# Altium integrated library Vishay Sprague Tantalum Triple-Lead Capacitor.IntLib: 14 symbols
Pins are listed as number, name and electrical type; pins without a type are passive.

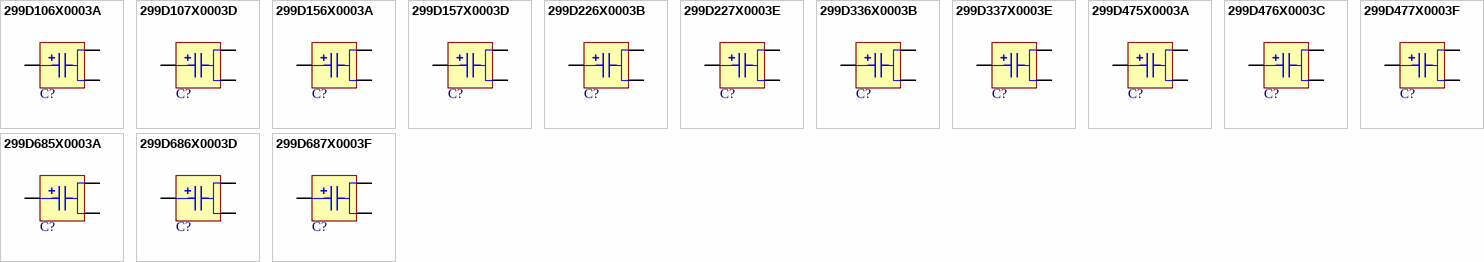
[diagram p0: symbols 299D106X0003A to 299D687X0003F]

## 299D106X0003A
designator C?
Resin-Coated, Tripole Triple-Lead, Solid Electrolyte Tantalex Capacitor: 10uF, 20% Tolerance, 3 WVDC @ +85°C, Surge = 3.6V; Note: See Data Sheet for full range of components; Published: 19-Mar-2004; DatasheetDocument: 28-Mar-2002; PackageReference: 299D-A; Publisher: Altium Limited; ComponentLink1Description: Manufacturer Link; ComponentLink1URL: http://www.vishay.com/; ComponentLink2Description: Datasheet; ComponentLink2URL: http://www.vishay.com/docs/40044/299d.pdf
footprint 299D-A (Capacitor, Tantalum Bead, Triple Lead; Body 7.1 x 4.82 x 9.14 mm (WxTxH max); Pin Spacing 2.54 mm (typ))
pins: 1, 2, 3
1 alternate drawing of the same symbol

## 299D107X0003D
designator C?
Resin-Coated, Tripole Triple-Lead, Solid Electrolyte Tantalex Capacitor: 100uF, 20% Tolerance, 3 WVDC @ +85°C, Surge = 3.6V; Note: See Data Sheet for full range of components; Published: 19-Mar-2004; DatasheetDocument: 28-Mar-2002; PackageReference: 299D-D; Publisher: Altium Limited; ComponentLink1Description: Manufacturer Link; ComponentLink1URL: http://www.vishay.com/; ComponentLink2Description: Datasheet; ComponentLink2URL: http://www.vishay.com/docs/40044/299d.pdf
footprint 299D-D (Capacitor, Tantalum Bead, Triple Lead; Body 7.1 x 6.85 x 11.17 mm (WxTxH max); Pin Spacing 2.54 mm (typ))
pins: 1, 2, 3
1 alternate drawing of the same symbol

## 299D156X0003A
designator C?
Resin-Coated, Tripole Triple-Lead, Solid Electrolyte Tantalex Capacitor: 15uF, 20% Tolerance, 3 WVDC @ +85°C, Surge = 3.6V; Note: See Data Sheet for full range of components; Published: 19-Mar-2004; DatasheetDocument: 28-Mar-2002; PackageReference: 299D-A; Publisher: Altium Limited; ComponentLink1Description: Manufacturer Link; ComponentLink1URL: http://www.vishay.com/; ComponentLink2Description: Datasheet; ComponentLink2URL: http://www.vishay.com/docs/40044/299d.pdf
footprint 299D-A (Capacitor, Tantalum Bead, Triple Lead; Body 7.1 x 4.82 x 9.14 mm (WxTxH max); Pin Spacing 2.54 mm (typ))
pins: 1, 2, 3
1 alternate drawing of the same symbol

## 299D157X0003D
designator C?
Resin-Coated, Tripole Triple-Lead, Solid Electrolyte Tantalex Capacitor: 150uF, 20% Tolerance, 3 WVDC @ +85°C, Surge = 3.6V; Note: See Data Sheet for full range of components; Published: 19-Mar-2004; DatasheetDocument: 28-Mar-2002; PackageReference: 299D-D; Publisher: Altium Limited; ComponentLink1Description: Manufacturer Link; ComponentLink1URL: http://www.vishay.com/; ComponentLink2Description: Datasheet; ComponentLink2URL: http://www.vishay.com/docs/40044/299d.pdf
footprint 299D-D (Capacitor, Tantalum Bead, Triple Lead; Body 7.1 x 6.85 x 11.17 mm (WxTxH max); Pin Spacing 2.54 mm (typ))
pins: 1, 2, 3
1 alternate drawing of the same symbol

## 299D226X0003B
designator C?
Resin-Coated, Tripole Triple-Lead, Solid Electrolyte Tantalex Capacitor: 22uF, 20% Tolerance, 3 WVDC @ +85°C, Surge = 3.6V; Note: See Data Sheet for full range of components; Published: 19-Mar-2004; DatasheetDocument: 28-Mar-2002; PackageReference: 299D-B; Publisher: Altium Limited; ComponentLink1Description: Manufacturer Link; ComponentLink1URL: http://www.vishay.com/; ComponentLink2Description: Datasheet; ComponentLink2URL: http://www.vishay.com/docs/40044/299d.pdf
footprint 299D-B (Capacitor, Tantalum Bead, Triple Lead; Body 7.1 x 5.08 x 9.14 mm (WxTxH max); Pin Spacing 2.54 mm (typ))
pins: 1, 2, 3
1 alternate drawing of the same symbol

## 299D227X0003E
designator C?
Resin-Coated, Tripole Triple-Lead, Solid Electrolyte Tantalex Capacitor: 220uF, 20% Tolerance, 3 WVDC @ +85°C, Surge = 3.6V; Note: See Data Sheet for full range of components; Published: 19-Mar-2004; DatasheetDocument: 28-Mar-2002; PackageReference: 299D-E; Publisher: Altium Limited; ComponentLink1Description: Manufacturer Link; ComponentLink1URL: http://www.vishay.com/; ComponentLink2Description: Datasheet; ComponentLink2URL: http://www.vishay.com/docs/40044/299d.pdf
footprint 299D-E (Capacitor, Tantalum Bead, Triple Lead; Body 8.63 x 8.63 x 14.22 mm (WxTxH max); Pin Spacing 2.54 mm (typ))
pins: 1, 2, 3
1 alternate drawing of the same symbol

## 299D336X0003B
designator C?
Resin-Coated, Tripole Triple-Lead, Solid Electrolyte Tantalex Capacitor: 33uF, 20% Tolerance, 3 WVDC @ +85°C, Surge = 3.6V; Note: See Data Sheet for full range of components; Published: 19-Mar-2004; DatasheetDocument: 28-Mar-2002; PackageReference: 299D-B; Publisher: Altium Limited; ComponentLink1Description: Manufacturer Link; ComponentLink1URL: http://www.vishay.com/; ComponentLink2Description: Datasheet; ComponentLink2URL: http://www.vishay.com/docs/40044/299d.pdf
footprint 299D-B (Capacitor, Tantalum Bead, Triple Lead; Body 7.1 x 5.08 x 9.14 mm (WxTxH max); Pin Spacing 2.54 mm (typ))
pins: 1, 2, 3
1 alternate drawing of the same symbol

## 299D337X0003E
designator C?
Resin-Coated, Tripole Triple-Lead, Solid Electrolyte Tantalex Capacitor: 330uF, 20% Tolerance, 3 WVDC @ +85°C, Surge = 3.6V; Note: See Data Sheet for full range of components; Published: 19-Mar-2004; DatasheetDocument: 28-Mar-2002; PackageReference: 299D-E; Publisher: Altium Limited; ComponentLink1Description: Manufacturer Link; ComponentLink1URL: http://www.vishay.com/; ComponentLink2Description: Datasheet; ComponentLink2URL: http://www.vishay.com/docs/40044/299d.pdf
footprint 299D-E (Capacitor, Tantalum Bead, Triple Lead; Body 8.63 x 8.63 x 14.22 mm (WxTxH max); Pin Spacing 2.54 mm (typ))
pins: 1, 2, 3
1 alternate drawing of the same symbol

## 299D475X0003A
designator C?
Resin-Coated, Tripole Triple-Lead, Solid Electrolyte Tantalex Capacitor: 4.7uF, 20% Tolerance, 3 WVDC @ +85°C, Surge = 3.6V; Note: See Data Sheet for full range of components; Published: 19-Mar-2004; DatasheetDocument: 28-Mar-2002; PackageReference: 299D-A; Publisher: Altium Limited; ComponentLink1Description: Manufacturer Link; ComponentLink1URL: http://www.vishay.com/; ComponentLink2Description: Datasheet; ComponentLink2URL: http://www.vishay.com/docs/40044/299d.pdf
footprint 299D-A (Capacitor, Tantalum Bead, Triple Lead; Body 7.1 x 4.82 x 9.14 mm (WxTxH max); Pin Spacing 2.54 mm (typ))
pins: 1, 2, 3
1 alternate drawing of the same symbol

## 299D476X0003C
designator C?
Resin-Coated, Tripole Triple-Lead, Solid Electrolyte Tantalex Capacitor: 47uF, 20% Tolerance, 3 WVDC @ +85°C, Surge = 3.6V; Note: See Data Sheet for full range of components; Published: 19-Mar-2004; DatasheetDocument: 28-Mar-2002; PackageReference: 299D-C; Publisher: Altium Limited; ComponentLink1Description: Manufacturer Link; ComponentLink1URL: http://www.vishay.com/; ComponentLink2Description: Datasheet; ComponentLink2URL: http://www.vishay.com/docs/40044/299d.pdf
footprint 299D-C (Capacitor, Tantalum Bead, Triple Lead; Body 7.1 x 5.84 x 9.65 mm (WxTxH max); Pin Spacing 2.54 mm (typ))
pins: 1, 2, 3
1 alternate drawing of the same symbol

## 299D477X0003F
designator C?
Resin-Coated, Tripole Triple-Lead, Solid Electrolyte Tantalex Capacitor: 470uF, 20% Tolerance, 3 WVDC @ +85°C, Surge = 3.6V; Note: See Data Sheet for full range of components; Published: 19-Mar-2004; DatasheetDocument: 28-Mar-2002; PackageReference: 299D-F; Publisher: Altium Limited; ComponentLink1Description: Manufacturer Link; ComponentLink1URL: http://www.vishay.com/; ComponentLink2Description: Datasheet; ComponentLink2URL: http://www.vishay.com/docs/40044/299d.pdf
footprint 299D-F (Capacitor, Tantalum Bead, Triple Lead; Body 9.14 x 9.14 x 15.74 mm (WxTxH max); Pin Spacing 2.54 mm (typ))
pins: 1, 2, 3
1 alternate drawing of the same symbol

## 299D685X0003A
designator C?
Resin-Coated, Tripole Triple-Lead, Solid Electrolyte Tantalex Capacitor: 6.8uF, 20% Tolerance, 3 WVDC @ +85°C, Surge = 3.6V; Note: See Data Sheet for full range of components; Published: 19-Mar-2004; DatasheetDocument: 28-Mar-2002; PackageReference: 299D-A; Publisher: Altium Limited; ComponentLink1Description: Manufacturer Link; ComponentLink1URL: http://www.vishay.com/; ComponentLink2Description: Datasheet; ComponentLink2URL: http://www.vishay.com/docs/40044/299d.pdf
footprint 299D-A (Capacitor, Tantalum Bead, Triple Lead; Body 7.1 x 4.82 x 9.14 mm (WxTxH max); Pin Spacing 2.54 mm (typ))
pins: 1, 2, 3
1 alternate drawing of the same symbol

## 299D686X0003D
designator C?
Resin-Coated, Tripole Triple-Lead, Solid Electrolyte Tantalex Capacitor: 68uF, 20% Tolerance, 3 WVDC @ +85°C, Surge = 3.6V; Note: See Data Sheet for full range of components; Published: 19-Mar-2004; DatasheetDocument: 28-Mar-2002; PackageReference: 299D-D; Publisher: Altium Limited; ComponentLink1Description: Manufacturer Link; ComponentLink1URL: http://www.vishay.com/; ComponentLink2Description: Datasheet; ComponentLink2URL: http://www.vishay.com/docs/40044/299d.pdf
footprint 299D-D (Capacitor, Tantalum Bead, Triple Lead; Body 7.1 x 6.85 x 11.17 mm (WxTxH max); Pin Spacing 2.54 mm (typ))
pins: 1, 2, 3
1 alternate drawing of the same symbol

## 299D687X0003F
designator C?
Resin-Coated, Tripole Triple-Lead, Solid Electrolyte Tantalex Capacitor: 680uF, 20% Tolerance, 3 WVDC @ +85°C, Surge = 3.6V; Note: See Data Sheet for full range of components; Published: 19-Mar-2004; DatasheetDocument: 28-Mar-2002; PackageReference: 299D-F; Publisher: Altium Limited; ComponentLink1Description: Manufacturer Link; ComponentLink1URL: http://www.vishay.com/; ComponentLink2Description: Datasheet; ComponentLink2URL: http://www.vishay.com/docs/40044/299d.pdf
footprint 299D-F (Capacitor, Tantalum Bead, Triple Lead; Body 9.14 x 9.14 x 15.74 mm (WxTxH max); Pin Spacing 2.54 mm (typ))
pins: 1, 2, 3
1 alternate drawing of the same symbol